# Altium footprint library Miscellaneous LED Segment Displays.PcbLib: 17 footprints (part 1 of 2)
Each footprint in its own frame and in the unit in brackets; x right, y up, seen from the top. Pads: shape width x height; smd on the part's side, far side on the other; paste and mask are expansions set on the pad; w line width, h text height; cw(c..) or ccw(c..) is an arc to the next point about the centre after c.
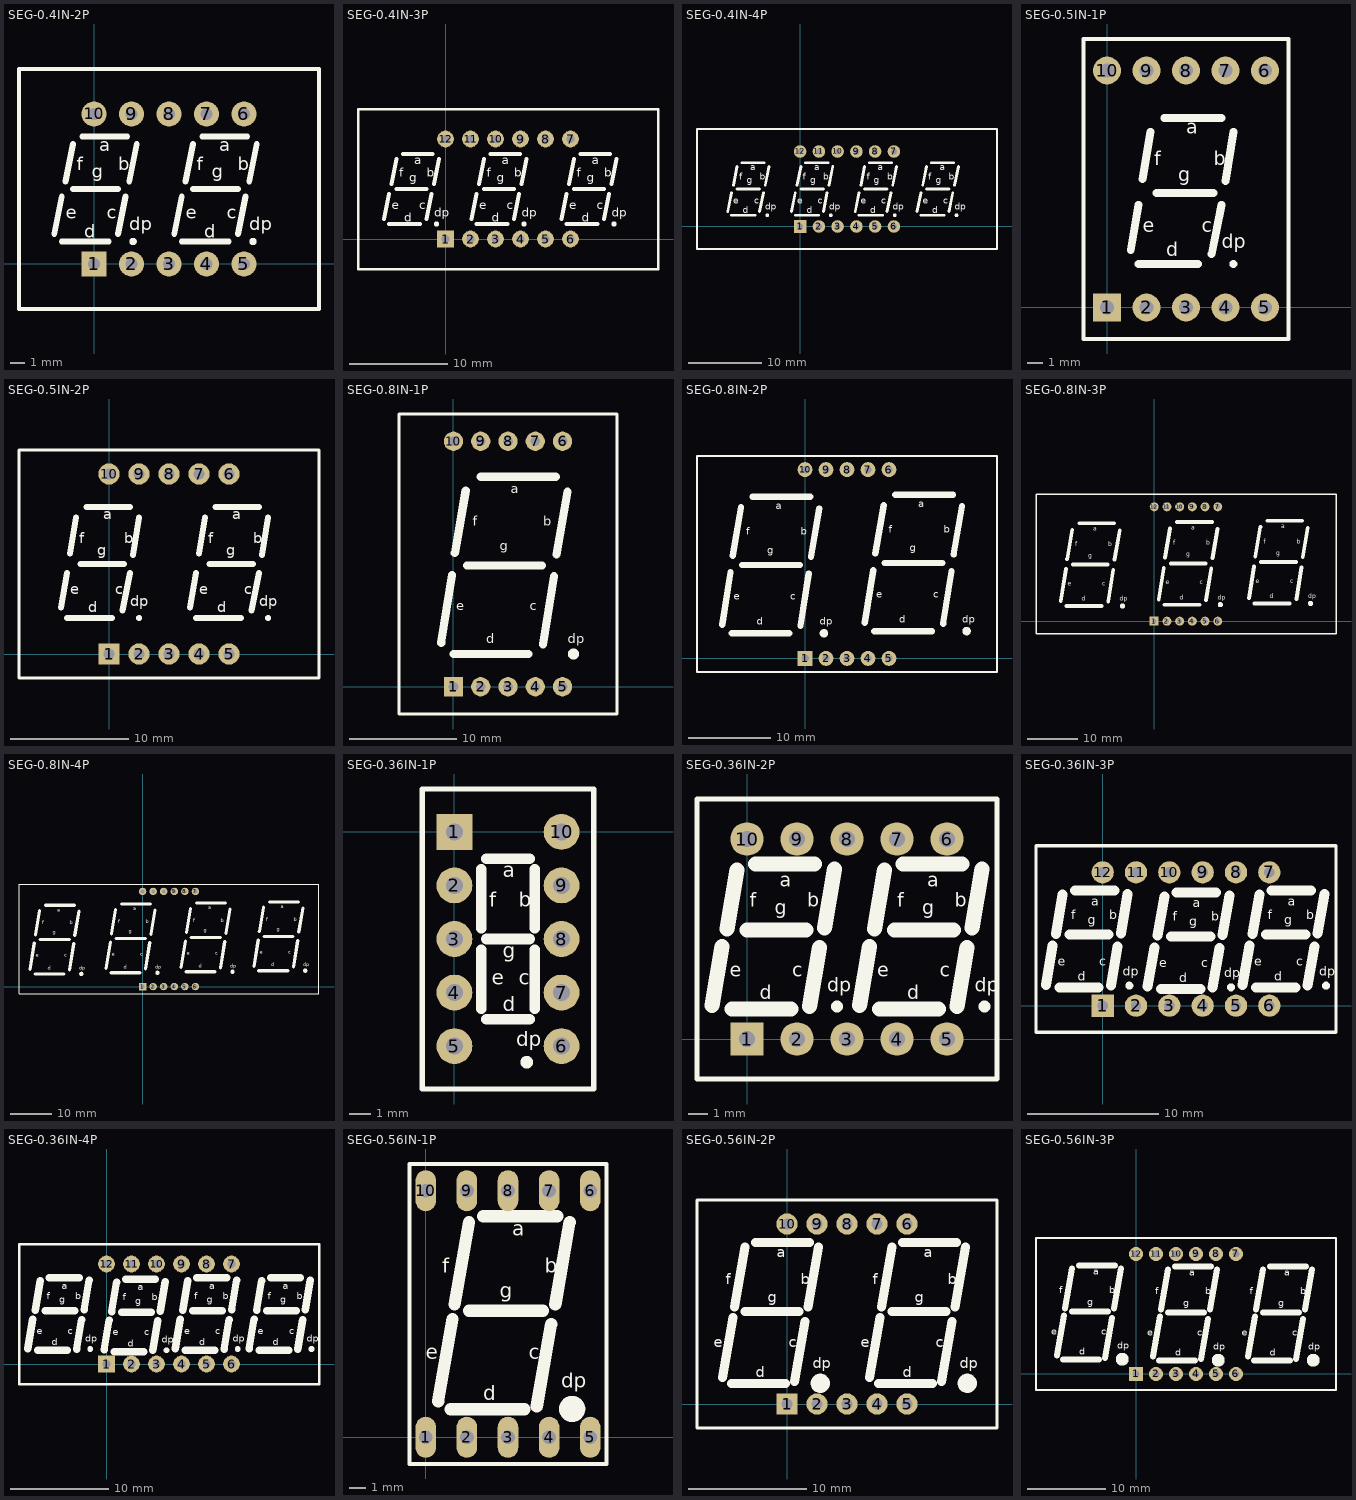
[diagram p0: the footprints below, top view; thin cyan lines are the x and y axes]

## SEG-0.4IN-2P [mm]
pads (10):
  rect 1.7x1.7 hole 0.8: 1(0,0)
  round 1.7 hole 0.8: 2(2.54,0) 3(5.08,0) 4(7.62,0) 5(10.16,0) 6(10.16,10.16) 7(7.62,10.16) 8(5.08,10.16) 9(2.54,10.16) 10(0,10.16)
Top Overlay:
  circle w0.254: c10.77,1.524 r0.127
  circle w0.254: c2.642,1.524 r0.127
  lines w0.254: -5.08,-3.048 -5.08,13.208 15.24,13.208 15.24,-3.048 -5.08,-3.048
  lines w0.381: -2.692,2.032 -2.184,4.572 ; -2.184,1.524 0.991,1.524 ; -1.93,5.588 -1.422,8.128 ; -1.422,5.08 1.626,5.08 ; -0.787,8.636 2.261,8.636 ; 1.626,2.032 2.134,4.572 ; 2.388,5.588 2.896,8.128 ; 5.436,2.032 5.944,4.572 ; 5.944,1.524 9.119,1.524 ; 6.198,5.588 6.706,8.128 ; 6.706,5.08 9.754,5.08 ; 7.341,8.636 10.389,8.636 ; 9.754,2.032 10.262,4.572 ; 10.516,5.588 11.024,8.128
  text "f" at 6.96,6.35 h0.9
  text "b" at 9.754,6.35 h0.9
  text "g" at 7.976,5.842 h0.9
  text "a" at 8.484,7.62 h0.9
  text "d" at 7.468,1.778 h0.9
  text "e" at 6.198,3.048 h0.9
  text "dp" at 10.516,2.286 h0.9
  text "c" at 8.992,3.048 h0.9
  text "f" at -1.168,6.35 h0.9
  text "b" at 1.626,6.35 h0.9
  text "g" at -0.152,5.842 h0.9
  text "a" at 0.356,7.62 h0.9
  text "d" at -0.66,1.778 h0.9
  text "e" at -1.93,3.048 h0.9
  text "dp" at 2.388,2.286 h0.9
  text "c" at 0.864,3.048 h0.9
3D body "0.4IN-2P.STEP": height 7, standoff -3.6, extent -4.86,-2.92 15.24,13.08

## SEG-0.4IN-3P [mm]
pads (12):
  rect 1.7x1.7 hole 0.8: 1(0,0)
  round 1.7 hole 0.8: 2(2.54,0) 3(5.08,0) 4(7.62,0) 5(10.16,0) 6(12.7,0) 7(12.7,10.16) 8(10.16,10.16) 9(7.62,10.16) 10(5.08,10.16) 11(2.54,10.16) 12(0,10.16)
Top Overlay:
  circle w0.254: c17.12,1.524 r0.127
  circle w0.254: c7.976,1.524 r0.127
  circle w0.254: c-0.914,1.524 r0.127
  lines w0.254: -8.89,-3.048 -8.89,13.208 21.59,13.208 21.59,-3.048 -8.89,-3.048
  lines w0.381: -6.248,2.032 -5.74,4.572 ; -5.74,1.524 -2.565,1.524 ; -5.486,5.588 -4.978,8.128 ; -4.978,5.08 -1.93,5.08 ; -4.343,8.636 -1.295,8.636 ; -1.93,2.032 -1.422,4.572 ; -1.168,5.588 -0.66,8.128 ; 2.642,2.032 3.15,4.572 ; 3.15,1.524 6.325,1.524 ; 3.404,5.588 3.912,8.128 ; 3.912,5.08 6.96,5.08 ; 4.547,8.636 7.595,8.636 ; 6.96,2.032 7.468,4.572 ; 7.722,5.588 8.23,8.128 ; 11.786,2.032 12.294,4.572 ; 12.294,1.524 15.469,1.524 ; 12.548,5.588 13.056,8.128 ; 13.056,5.08 16.104,5.08 ; 13.691,8.636 16.739,8.636 ; 16.104,2.032 16.612,4.572 ; 16.866,5.588 17.374,8.128
  text "f" at 13.31,6.35 h0.9
  text "b" at 16.104,6.35 h0.9
  text "g" at 14.326,5.842 h0.9
  text "a" at 14.834,7.62 h0.9
  text "d" at 13.818,1.778 h0.9
  text "e" at 12.548,3.048 h0.9
  text "dp" at 16.866,2.286 h0.9
  text "c" at 15.342,3.048 h0.9
  text "f" at 4.166,6.35 h0.9
  text "b" at 6.96,6.35 h0.9
  text "g" at 5.182,5.842 h0.9
  text "a" at 5.69,7.62 h0.9
  text "d" at 4.674,1.778 h0.9
  text "e" at 3.404,3.048 h0.9
  text "dp" at 7.722,2.286 h0.9
  text "c" at 6.198,3.048 h0.9
  text "f" at -4.724,6.35 h0.9
  text "b" at -1.93,6.35 h0.9
  text "g" at -3.708,5.842 h0.9
  text "a" at -3.2,7.62 h0.9
  text "d" at -4.216,1.778 h0.9
  text "e" at -5.486,3.048 h0.9
  text "dp" at -1.168,2.286 h0.9
  text "c" at -2.692,3.048 h0.9
3D body "0.4IN-3P.STEP": height 7, standoff -3.6, extent -8.636,-2.92 21.464,13.08

## SEG-0.4IN-4P [mm]
pads (12):
  rect 1.7x1.7 hole 0.8: 1(0,0)
  round 1.7 hole 0.8: 2(2.54,0) 3(5.08,0) 4(7.62,0) 5(10.16,0) 6(12.7,0) 7(12.7,10.16) 8(10.16,10.16) 9(7.62,10.16) 10(5.08,10.16) 11(2.54,10.16) 12(0,10.16)
Top Overlay:
  circle w0.254: c21.184,1.524 r0.127
  circle w0.254: c12.802,1.524 r0.127
  circle w0.254: c4.166,1.524 r0.127
  circle w0.254: c-4.47,1.524 r0.127
  lines w0.254: -13.97,-3.048 26.67,-3.048 26.67,13.208 -13.97,13.208 -13.97,-3.048
  lines w0.381: -9.804,2.032 -9.296,4.572 ; -9.296,1.524 -6.121,1.524 ; -9.042,5.588 -8.534,8.128 ; -8.534,5.08 -5.486,5.08 ; -7.899,8.636 -4.851,8.636 ; -5.486,2.032 -4.978,4.572 ; -4.724,5.588 -4.216,8.128 ; -1.168,2.032 -0.66,4.572 ; -0.66,1.524 2.515,1.524 ; -0.406,5.588 0.102,8.128 ; 0.102,5.08 3.15,5.08 ; 0.737,8.636 3.785,8.636 ; 3.15,2.032 3.658,4.572 ; 3.912,5.588 4.42,8.128 ; 7.468,2.032 7.976,4.572 ; 7.976,1.524 11.151,1.524 ; 8.23,5.588 8.738,8.128 ; 8.738,5.08 11.786,5.08 ; 9.373,8.636 12.421,8.636 ; 11.786,2.032 12.294,4.572 ; 12.548,5.588 13.056,8.128 ; 15.85,2.032 16.358,4.572 ; 16.358,1.524 19.533,1.524 ; 16.612,5.588 17.12,8.128 ; 17.12,5.08 20.168,5.08 ; 17.755,8.636 20.803,8.636 ; 20.168,2.032 20.676,4.572 ; 20.93,5.588 21.438,8.128
  text "f" at 17.374,6.35 h0.9
  text "b" at 20.168,6.35 h0.9
  text "g" at 18.39,5.842 h0.9
  text "a" at 18.898,7.62 h0.9
  text "d" at 17.882,1.778 h0.9
  text "e" at 16.612,3.048 h0.9
  text "dp" at 20.93,2.286 h0.9
  text "c" at 19.406,3.048 h0.9
  text "f" at 8.992,6.35 h0.9
  text "b" at 11.786,6.35 h0.9
  text "g" at 10.008,5.842 h0.9
  text "a" at 10.516,7.62 h0.9
  text "d" at 9.5,1.778 h0.9
  text "e" at 8.23,3.048 h0.9
  text "dp" at 12.548,2.286 h0.9
  text "c" at 11.024,3.048 h0.9
  text "f" at 0.356,6.35 h0.9
  text "b" at 3.15,6.35 h0.9
  text "g" at 1.372,5.842 h0.9
  text "a" at 1.88,7.62 h0.9
  text "d" at 0.864,1.778 h0.9
  text "e" at -0.406,3.048 h0.9
  text "dp" at 3.912,2.286 h0.9
  text "c" at 2.388,3.048 h0.9
  text "f" at -8.28,6.35 h0.9
  text "b" at -5.486,6.35 h0.9
  text "g" at -7.264,5.842 h0.9
  text "a" at -6.756,7.62 h0.9
  text "d" at -7.772,1.778 h0.9
  text "e" at -9.042,3.048 h0.9
  text "dp" at -4.724,2.286 h0.9
  text "c" at -6.248,3.048 h0.9
3D body "0.4IN-4P.STEP": height 7, standoff -3.6, extent -13.9,-3.046 26.6,12.954

## SEG-0.5IN-1P [mm]
pads (10):
  rect 1.8x1.8 hole 0.9: 1(0,0)
  round 1.8 hole 0.9: 2(2.54,0) 3(5.08,0) 4(7.62,0) 5(10.16,0) 6(10.16,15.24) 7(7.62,15.24) 8(5.08,15.24) 9(2.54,15.24) 10(0,15.24)
Top Overlay:
  circle w0.254: c8.128,2.794 r0.127
  lines w0.254: -1.524,-2.032 11.684,-2.032 11.684,17.272 -1.524,17.272 -1.524,-2.032
  lines w0.508: 1.524,3.683 2.032,6.604 ; 2.032,2.794 5.842,2.794 ; 2.286,8.255 2.794,11.303 ; 3.175,7.366 6.858,7.366 ; 3.683,12.192 7.366,12.192 ; 6.731,3.429 7.366,6.604 ; 7.62,8.128 8.128,11.303
  text "c" at 6.096,4.826 h0.9
  text "dp" at 7.366,3.81 h0.9
  text "e" at 2.286,4.826 h0.9
  text "d" at 3.81,3.302 h0.9
  text "a" at 5.08,11.176 h0.9
  text "g" at 4.572,8.128 h0.9
  text "b" at 6.858,9.144 h0.9
  text "f" at 3.048,9.144 h0.9
3D body "0.5IN-1P.STEP": height 8, standoff -3.6, extent -1.27,-1.982 11.43,17.018

## SEG-0.5IN-2P [mm]
pads (10):
  rect 1.8x1.8 hole 0.9: 1(0,0)
  round 1.8 hole 0.9: 2(2.54,0) 3(5.08,0) 4(7.62,0) 5(10.16,0) 6(10.16,15.24) 7(7.62,15.24) 8(5.08,15.24) 9(2.54,15.24) 10(0,15.24)
Top Overlay:
  circle w0.254: c2.54,3.048 r0.127
  circle w0.254: c13.462,3.048 r0.127
  lines w0.254: -7.62,-2.032 17.78,-2.032 17.78,17.272 -7.62,17.272 -7.62,-2.032
  lines w0.508: -4.064,3.937 -3.556,6.858 ; -3.556,3.048 0.254,3.048 ; -3.302,8.509 -2.794,11.557 ; -2.413,7.62 1.27,7.62 ; -1.905,12.446 1.778,12.446 ; 1.143,3.683 1.778,6.858 ; 2.032,8.382 2.54,11.557 ; 6.858,3.937 7.366,6.858 ; 7.366,3.048 11.176,3.048 ; 7.62,8.509 8.128,11.557 ; 8.509,7.62 12.192,7.62 ; 9.017,12.446 12.7,12.446 ; 12.065,3.683 12.7,6.858 ; 12.954,8.382 13.462,11.557
  text "f" at -2.54,9.398 h0.9
  text "b" at 1.27,9.398 h0.9
  text "g" at -1.016,8.382 h0.9
  text "a" at -0.508,11.43 h0.9
  text "d" at -1.778,3.556 h0.9
  text "e" at -3.302,5.08 h0.9
  text "dp" at 1.778,4.064 h0.9
  text "c" at 0.508,5.08 h0.9
  text "f" at 8.382,9.398 h0.9
  text "b" at 12.192,9.398 h0.9
  text "g" at 9.906,8.382 h0.9
  text "a" at 10.414,11.43 h0.9
  text "d" at 9.144,3.556 h0.9
  text "e" at 7.62,5.08 h0.9
  text "dp" at 12.7,4.064 h0.9
  text "c" at 11.43,5.08 h0.9
3D body "0.5IN-2P.STEP": height 8, standoff -3.6, extent -7.42,-1.982 17.58,17.018

## SEG-0.8IN-1P [mm]
pads (10):
  rect 1.8x1.8 hole 0.9: 1(0,0)
  round 1.8 hole 0.9: 2(2.54,0) 3(5.08,0) 4(7.62,0) 5(10.16,0) 6(10.16,22.86) 7(7.62,22.86) 8(5.08,22.86) 9(2.54,22.86) 10(0,22.86)
Top Overlay:
  circle w0.508: c11.176,3.048 r0.254
  lines w0.254: -5.08,-2.54 -5.08,25.4 15.24,25.4 15.24,-2.54 -5.08,-2.54
  lines w0.762: -1.143,4.064 -0.127,10.414 ; 0,3.048 6.985,3.048 ; 0.127,12.446 1.143,18.288 ; 1.27,11.303 8.255,11.303 ; 2.54,19.558 9.525,19.558 ; 8.336,3.937 9.352,10.287 ; 9.606,12.319 10.622,18.161
  text "f" at 1.778,14.986 h0.9
  text "b" at 8.382,14.986 h0.9
  text "g" at 4.318,12.7 h0.9
  text "a" at 5.334,18.034 h0.9
  text "d" at 3.048,4.064 h0.9
  text "e" at 0.254,7.112 h0.9
  text "dp" at 10.668,4.064 h0.9
  text "c" at 7.112,7.112 h0.9
3D body "0.8IN-1P.STEP": height 10, standoff -3.1, extent -4.92,-2.554 15.08,25.146

## SEG-0.8IN-2P [mm]
pads (10):
  rect 1.8x1.8 hole 0.9: 1(0,0)
  round 1.8 hole 0.9: 2(2.54,0) 3(5.08,0) 4(7.62,0) 5(10.16,0) 6(10.16,22.86) 7(7.62,22.86) 8(5.08,22.86) 9(2.54,22.86) 10(0,22.86)
Top Overlay:
  circle w0.508: c2.286,3.048 r0.254
  circle w0.508: c19.558,3.302 r0.254
  lines w0.254: -13.081,-1.651 -13.081,24.511 23.241,24.511 23.241,-1.651 -13.081,-1.651
  lines w0.762: -10.033,4.064 -9.017,10.414 ; -8.89,3.048 -1.905,3.048 ; -8.763,12.446 -7.747,18.288 ; -7.62,11.303 -0.635,11.303 ; -6.35,19.558 0.635,19.558 ; -0.554,3.937 0.462,10.287 ; 0.716,12.319 1.732,18.161 ; 7.239,4.318 8.255,10.668 ; 8.382,3.302 15.367,3.302 ; 8.509,12.7 9.525,18.542 ; 9.652,11.557 16.637,11.557 ; 10.922,19.812 17.907,19.812 ; 16.718,4.191 17.734,10.541 ; 17.988,12.573 19.004,18.415
  text "f" at -7.112,14.986 h0.9
  text "b" at -0.508,14.986 h0.9
  text "g" at -4.572,12.7 h0.9
  text "a" at -3.556,18.034 h0.9
  text "d" at -5.842,4.064 h0.9
  text "e" at -8.636,7.112 h0.9
  text "dp" at 1.778,4.064 h0.9
  text "c" at -1.778,7.112 h0.9
  text "f" at 10.16,15.24 h0.9
  text "b" at 16.764,15.24 h0.9
  text "g" at 12.7,12.954 h0.9
  text "a" at 13.716,18.288 h0.9
  text "d" at 11.43,4.318 h0.9
  text "e" at 8.636,7.366 h0.9
  text "dp" at 19.05,4.318 h0.9
  text "c" at 15.494,7.366 h0.9
3D body "0.8IN-2P.STEP": height 10, standoff -3.1, extent -12.82,-1.162 22.98,24.638

## SEG-0.8IN-3P [mm]
pads (12):
  rect 1.8x1.8 hole 0.9: 1(0,0)
  round 1.8 hole 0.9: 2(2.54,0) 3(5.08,0) 4(7.62,0) 5(10.16,0) 6(12.7,0) 7(12.7,22.86) 8(10.16,22.86) 9(7.62,22.86) 10(5.08,22.86) 11(2.54,22.86) 12(0,22.86)
Top Overlay:
  circle w0.508: c31.242,3.556 r0.254
  circle w0.508: c13.208,3.302 r0.254
  circle w0.508: c-6.35,3.048 r0.254
  lines w0.254: -23.622,-2.54 36.322,-2.54 36.322,25.4 -23.622,25.4 -23.622,-2.54
  lines w0.762: -18.669,4.064 -17.653,10.414 ; -17.526,3.048 -10.541,3.048 ; -17.399,12.446 -16.383,18.288 ; -16.256,11.303 -9.271,11.303 ; -14.986,19.558 -8.001,19.558 ; -9.19,3.937 -8.174,10.287 ; -7.92,12.319 -6.904,18.161 ; 0.889,4.318 1.905,10.668 ; 2.032,3.302 9.017,3.302 ; 2.159,12.7 3.175,18.542 ; 3.302,11.557 10.287,11.557 ; 4.572,19.812 11.557,19.812 ; 10.368,4.191 11.384,10.541 ; 11.638,12.573 12.654,18.415 ; 18.923,4.572 19.939,10.922 ; 20.066,3.556 27.051,3.556 ; 20.193,12.954 21.209,18.796 ; 21.336,11.811 28.321,11.811 ; 22.606,20.066 29.591,20.066 ; 28.402,4.445 29.418,10.795 ; 29.672,12.827 30.688,18.669
  text "c" at 27.178,7.62 h0.9
  text "dp" at 30.734,4.572 h0.9
  text "e" at 20.32,7.62 h0.9
  text "d" at 23.114,4.572 h0.9
  text "a" at 25.4,18.542 h0.9
  text "g" at 24.384,13.208 h0.9
  text "b" at 28.448,15.494 h0.9
  text "f" at 21.844,15.494 h0.9
  text "c" at 9.144,7.366 h0.9
  text "dp" at 12.7,4.318 h0.9
  text "e" at 2.286,7.366 h0.9
  text "d" at 5.08,4.318 h0.9
  text "a" at 7.366,18.288 h0.9
  text "g" at 6.35,12.954 h0.9
  text "b" at 10.414,15.24 h0.9
  text "f" at 3.81,15.24 h0.9
  text "c" at -10.414,7.112 h0.9
  text "dp" at -6.858,4.064 h0.9
  text "e" at -17.272,7.112 h0.9
  text "d" at -14.478,4.064 h0.9
  text "a" at -12.192,18.034 h0.9
  text "g" at -13.208,12.7 h0.9
  text "b" at -9.144,14.986 h0.9
  text "f" at -15.748,14.986 h0.9
3D body "0.8IN-3P.STEP": height 10, standoff -3.1, extent -23.3,-2.046 36,25.654

## SEG-0.8IN-4P [mm]
pads (12):
  rect 1.8x1.8 hole 0.9: 1(0,0)
  round 1.8 hole 0.9: 2(2.54,0) 3(5.08,0) 4(7.62,0) 5(10.16,0) 6(12.7,0) 7(12.7,22.86) 8(10.16,22.86) 9(7.62,22.86) 10(5.08,22.86) 11(2.54,22.86) 12(0,22.86)
Top Overlay:
  circle w0.508: c39.116,3.81 r0.254
  circle w0.508: c21.59,3.556 r0.254
  circle w0.508: c3.556,3.302 r0.254
  circle w0.508: c-14.732,3.048 r0.254
  lines w0.254: -29.718,-1.778 -29.718,24.638 42.418,24.638 42.418,-1.778 -29.718,-1.778
  lines w0.762: -27.051,4.064 -26.035,10.414 ; -25.908,3.048 -18.923,3.048 ; -25.781,12.446 -24.765,18.288 ; -24.638,11.303 -17.653,11.303 ; -23.368,19.558 -16.383,19.558 ; -17.572,3.937 -16.556,10.287 ; -16.302,12.319 -15.286,18.161 ; -8.763,4.318 -7.747,10.668 ; -7.62,3.302 -0.635,3.302 ; -7.493,12.7 -6.477,18.542 ; -6.35,11.557 0.635,11.557 ; -5.08,19.812 1.905,19.812 ; 0.716,4.191 1.732,10.541 ; 1.986,12.573 3.002,18.415 ; 9.271,4.572 10.287,10.922 ; 10.414,3.556 17.399,3.556 ; 10.541,12.954 11.557,18.796 ; 11.684,11.811 18.669,11.811 ; 12.954,20.066 19.939,20.066 ; 18.75,4.445 19.766,10.795 ; 20.02,12.827 21.036,18.669 ; 26.797,4.826 27.813,11.176 ; 27.94,3.81 34.925,3.81 ; 28.067,13.208 29.083,19.05 ; 29.21,12.065 36.195,12.065 ; 30.48,20.32 37.465,20.32 ; 36.276,4.699 37.292,11.049 ; 37.546,13.081 38.562,18.923
  text "c" at 35.052,7.874 h0.9
  text "dp" at 38.608,4.826 h0.9
  text "e" at 28.194,7.874 h0.9
  text "d" at 30.988,4.826 h0.9
  text "a" at 33.274,18.796 h0.9
  text "g" at 32.258,13.462 h0.9
  text "b" at 36.322,15.748 h0.9
  text "f" at 29.718,15.748 h0.9
  text "c" at 17.526,7.62 h0.9
  text "dp" at 21.082,4.572 h0.9
  text "e" at 10.668,7.62 h0.9
  text "d" at 13.462,4.572 h0.9
  text "a" at 15.748,18.542 h0.9
  text "g" at 14.732,13.208 h0.9
  text "b" at 18.796,15.494 h0.9
  text "f" at 12.192,15.494 h0.9
  text "c" at -0.508,7.366 h0.9
  text "dp" at 3.048,4.318 h0.9
  text "e" at -7.366,7.366 h0.9
  text "d" at -4.572,4.318 h0.9
  text "a" at -2.286,18.288 h0.9
  text "g" at -3.302,12.954 h0.9
  text "b" at 0.762,15.24 h0.9
  text "f" at -5.842,15.24 h0.9
  text "c" at -18.796,7.112 h0.9
  text "dp" at -15.24,4.064 h0.9
  text "e" at -25.654,7.112 h0.9
  text "d" at -22.86,4.064 h0.9
  text "a" at -20.574,18.034 h0.9
  text "g" at -21.59,12.7 h0.9
  text "b" at -17.526,14.986 h0.9
  text "f" at -24.13,14.986 h0.9
3D body "0.8IN-4P.STEP": height 10, standoff -3.1, extent -29.45,-1.108 42.15,24.892

## SEG-0.36IN-1P [mm]
pads (10):
  rect 1.7x1.7 hole 0.8: 1(0,0)
  round 1.7 hole 0.8: 2(0,-2.54) 3(0,-5.08) 4(0,-7.62) 5(0,-10.16) 6(5.08,-10.16) 7(5.08,-7.62) 8(5.08,-5.08) 9(5.08,-2.54) 10(5.08,0)
Top Overlay:
  circle w0.5: c3.429,-10.922 r0.05
  lines w0.254: -1.524,-12.192 6.604,-12.192 6.604,2.032 -1.524,2.032 -1.524,-12.192
  lines w0.508: 1.27,-8.382 1.27,-5.588 ; 1.27,-4.572 1.27,-1.778 ; 1.524,-8.89 3.556,-8.89 ; 1.524,-5.08 3.556,-5.08 ; 1.524,-1.27 3.556,-1.27 ; 3.81,-8.382 3.81,-5.588 ; 3.81,-4.572 3.81,-1.778
  text "g" at 2.286,-5.969 h0.7
  text "c" at 3.048,-7.239 h0.7
  text "dp" at 2.921,-10.16 h0.7
  text "e" at 1.778,-7.239 h0.7
  text "d" at 2.286,-8.509 h0.7
  text "a" at 2.286,-2.159 h0.7
  text "b" at 3.048,-3.556 h0.7
  text "f" at 1.651,-3.556 h0.7
Mechanical 15:
  lines w0.05: 2.04,-5.08 3.04,-5.08
3D body "0.36IN-1P.STEP": height 8.5, standoff -3.35, extent -1.21,-12.095 6.29,1.905

## SEG-0.36IN-2P [mm]
pads (10):
  rect 1.7x1.7 hole 0.8: 1(0,0)
  round 1.7 hole 0.8: 2(2.54,0) 3(5.08,0) 4(7.62,0) 5(10.16,0) 6(10.16,10.16) 7(7.62,10.16) 8(5.08,10.16) 9(2.54,10.16) 10(0,10.16)
Top Overlay:
  circle w0.5: c4.572,1.651 r0.05
  circle w0.5: c12.065,1.651 r0.05
  lines w0.254: -2.54,-2.032 -2.54,12.192 12.7,12.192 12.7,-2.032 -2.54,-2.032
  lines w0.762: -1.778,1.702 -1.27,4.699 ; -1.016,5.588 -0.508,8.585 ; -0.762,1.524 2.238,1.524 ; 0,5.537 3,5.537 ; 0.429,8.89 3.429,8.89 ; 3.175,1.651 3.683,4.648 ; 3.937,5.639 4.445,8.636 ; 5.715,1.702 6.223,4.699 ; 6.477,5.588 6.985,8.585 ; 6.731,1.524 9.731,1.524 ; 7.493,5.537 10.493,5.537 ; 7.922,8.89 10.922,8.89 ; 10.668,1.651 11.176,4.648 ; 11.43,5.639 11.938,8.636
  text "c" at 2.286,3.175 h0.7
  text "dp" at 4.064,2.413 h0.7
  text "e" at -0.889,3.175 h0.7
  text "d" at 0.635,2.032 h0.7
  text "a" at 1.651,7.747 h0.7
  text "g" at 1.397,6.35 h0.7
  text "b" at 3.048,6.731 h0.7
  text "f" at 0.127,6.731 h0.7
  text "f" at 7.62,6.731 h0.7
  text "b" at 10.541,6.731 h0.7
  text "g" at 8.89,6.35 h0.7
  text "a" at 9.144,7.747 h0.7
  text "d" at 8.128,2.032 h0.7
  text "e" at 6.604,3.175 h0.7
  text "dp" at 11.557,2.413 h0.7
  text "c" at 9.779,3.175 h0.7
3D body "0.36IN-2P.STEP": height 7.2, standoff -3.6, extent -2.42,-1.935 12.58,12.065

## SEG-0.36IN-3P [mm]
pads (12):
  rect 1.7x1.7 hole 0.8: 1(0,0)
  round 1.7 hole 0.8: 2(2.54,0) 3(5.08,0) 4(7.62,0) 5(10.16,0) 6(12.7,0) 7(12.7,10.16) 8(10.16,10.16) 9(7.62,10.16) 10(5.08,10.16) 11(2.54,10.16) 12(0,10.16)
Top Overlay:
  circle w0.5: c2.032,1.524 r0.05
  circle w0.5: c9.779,1.397 r0.05
  circle w0.5: c17.018,1.524 r0.05
  lines w0.254: -5.08,-2.032 17.78,-2.032 17.78,12.192 -5.08,12.192 -5.08,-2.032
  lines w0.762: -4.318,1.575 -3.81,4.572 ; -3.556,5.461 -3.048,8.458 ; -3.302,1.397 -0.302,1.397 ; -2.54,5.41 0.46,5.41 ; -2.111,8.763 0.889,8.763 ; 0.635,1.524 1.143,4.521 ; 1.397,5.512 1.905,8.509 ; 3.429,1.448 3.937,4.445 ; 4.191,5.334 4.699,8.331 ; 4.445,1.27 7.445,1.27 ; 5.207,5.283 8.207,5.283 ; 5.636,8.636 8.636,8.636 ; 8.382,1.397 8.89,4.394 ; 9.144,5.385 9.652,8.382 ; 10.668,1.575 11.176,4.572 ; 11.43,5.461 11.938,8.458 ; 11.684,1.397 14.684,1.397 ; 12.446,5.41 15.446,5.41 ; 12.875,8.763 15.875,8.763 ; 15.621,1.524 16.129,4.521 ; 16.383,5.512 16.891,8.509
  text "f" at -2.413,6.604 h0.7
  text "b" at 0.508,6.604 h0.7
  text "g" at -1.143,6.223 h0.7
  text "a" at -0.889,7.62 h0.7
  text "d" at -1.905,1.905 h0.7
  text "e" at -3.429,3.048 h0.7
  text "dp" at 1.524,2.286 h0.7
  text "c" at -0.254,3.048 h0.7
  text "f" at 5.334,6.477 h0.7
  text "b" at 8.255,6.477 h0.7
  text "g" at 6.604,6.096 h0.7
  text "a" at 6.858,7.493 h0.7
  text "d" at 5.842,1.778 h0.7
  text "e" at 4.318,2.921 h0.7
  text "dp" at 9.271,2.159 h0.7
  text "c" at 7.493,2.921 h0.7
  text "f" at 12.573,6.604 h0.7
  text "b" at 15.494,6.604 h0.7
  text "g" at 13.843,6.223 h0.7
  text "a" at 14.097,7.62 h0.7
  text "d" at 13.081,1.905 h0.7
  text "e" at 11.557,3.048 h0.7
  text "dp" at 16.51,2.286 h0.7
  text "c" at 14.732,3.048 h0.7
3D body "0.36IN-3P.STEP": height 7.2, standoff -3.6, extent -4.9,-1.935 17.6,12.065

## SEG-0.36IN-4P [mm]
pads (12):
  rect 1.7x1.7 hole 0.8: 1(0,0)
  round 1.7 hole 0.8: 2(2.54,0) 3(5.08,0) 4(7.62,0) 5(10.16,0) 6(12.7,0) 7(12.7,10.16) 8(10.16,10.16) 9(7.62,10.16) 10(5.08,10.16) 11(2.54,10.16) 12(0,10.16)
Top Overlay:
  circle w0.5: c20.828,1.524 r0.05
  circle w0.5: c13.335,1.524 r0.05
  circle w0.5: c6.096,1.397 r0.05
  circle w0.5: c-1.651,1.524 r0.05
  lines w0.254: -8.89,-2.032 -8.89,12.192 21.59,12.192 21.59,-2.032 -8.89,-2.032
  lines w0.762: -8.001,1.575 -7.493,4.572 ; -7.239,5.461 -6.731,8.458 ; -6.985,1.397 -3.985,1.397 ; -6.223,5.41 -3.223,5.41 ; -5.794,8.763 -2.794,8.763 ; -3.048,1.524 -2.54,4.521 ; -2.286,5.512 -1.778,8.509 ; -0.254,1.448 0.254,4.445 ; 0.508,5.334 1.016,8.331 ; 0.762,1.27 3.762,1.27 ; 1.524,5.283 4.524,5.283 ; 1.953,8.636 4.953,8.636 ; 4.699,1.397 5.207,4.394 ; 5.461,5.385 5.969,8.382 ; 6.985,1.575 7.493,4.572 ; 7.747,5.461 8.255,8.458 ; 8.001,1.397 11.001,1.397 ; 8.763,5.41 11.763,5.41 ; 9.192,8.763 12.192,8.763 ; 11.938,1.524 12.446,4.521 ; 12.7,5.512 13.208,8.509 ; 14.478,1.575 14.986,4.572 ; 15.24,5.461 15.748,8.458 ; 15.494,1.397 18.494,1.397 ; 16.256,5.41 19.256,5.41 ; 16.685,8.763 19.685,8.763 ; 19.431,1.524 19.939,4.521 ; 20.193,5.512 20.701,8.509
  text "f" at 16.383,6.604 h0.7
  text "b" at 19.304,6.604 h0.7
  text "g" at 17.653,6.223 h0.7
  text "a" at 17.907,7.62 h0.7
  text "d" at 16.891,1.905 h0.7
  text "e" at 15.367,3.048 h0.7
  text "dp" at 20.32,2.286 h0.7
  text "c" at 18.542,3.048 h0.7
  text "c" at 11.049,3.048 h0.7
  text "dp" at 12.827,2.286 h0.7
  text "e" at 7.874,3.048 h0.7
  text "d" at 9.398,1.905 h0.7
  text "a" at 10.414,7.62 h0.7
  text "g" at 10.16,6.223 h0.7
  text "b" at 11.811,6.604 h0.7
  text "f" at 8.89,6.604 h0.7
  text "c" at 3.81,2.921 h0.7
  text "dp" at 5.588,2.159 h0.7
  text "e" at 0.635,2.921 h0.7
  text "d" at 2.159,1.778 h0.7
  text "a" at 3.175,7.493 h0.7
  text "g" at 2.921,6.096 h0.7
  text "b" at 4.572,6.477 h0.7
  text "f" at 1.651,6.477 h0.7
  text "c" at -3.937,3.048 h0.7
  text "dp" at -2.159,2.286 h0.7
  text "e" at -7.112,3.048 h0.7
  text "d" at -5.588,1.905 h0.7
  text "a" at -4.572,7.62 h0.7
  text "g" at -4.826,6.223 h0.7
  text "b" at -3.175,6.604 h0.7
  text "f" at -6.096,6.604 h0.7
3D body "0.36IN-4P.STEP": height 7.2, standoff -3.6, extent -8.65,-1.935 21.35,12.065

## SEG-0.56IN-1P [mm]
pads (10):
  oval 1.27x2.54 hole 0.85: 1(0,0) 2(2.54,0) 3(5.08,0) 4(7.62,0) 5(10.16,0) 6(10.16,15.24) 7(7.62,15.24) 8(5.08,15.24) 9(2.54,15.24) 10(0,15.24)
Top Overlay:
  circle w1.016: c9.042,1.753 r0.305
  lines w0.254: -1.016,-1.651 -1.016,16.891 11.176,16.891 11.176,-1.651 -1.016,-1.651
  lines w0.762: 0.762,2.235 1.651,7.315 ; 1.524,1.727 6.096,1.727 ; 1.778,8.204 2.667,13.284 ; 2.667,7.823 7.239,7.823 ; 3.556,13.665 8.128,13.665 ; 6.858,1.905 7.747,6.985 ; 8.001,8.204 8.89,13.284
  text "f" at 1.016,10.16 h0.9
  text "b" at 7.366,10.16 h0.9
  text "g" at 4.572,8.636 h0.9
  text "a" at 5.334,12.446 h0.9
  text "d" at 3.556,2.286 h0.9
  text "e" at 0,4.826 h0.9
  text "dp" at 8.382,3.048 h0.9
  text "c" at 6.35,4.826 h0.9
3D body "0.56IN-1P.STEP": height 8, standoff -3.6, extent -1.22,-1.855 11.38,17.145

## SEG-0.56IN-2P [mm]
pads (10):
  rect 1.8x1.8 hole 0.9: 1(0,0)
  round 1.8 hole 0.9: 2(2.54,0) 3(5.08,0) 4(7.62,0) 5(10.16,0) 6(10.16,15.24) 7(7.62,15.24) 8(5.08,15.24) 9(2.54,15.24) 10(0,15.24)
Top Overlay:
  circle w1.016: c15.265,1.753 r0.305
  circle w1.016: c2.819,1.753 r0.305
  lines w0.254: -7.62,-2.032 -7.62,17.272 17.78,17.272 17.78,-2.032 -7.62,-2.032
  lines w0.762: -5.461,2.235 -4.572,7.315 ; -4.699,1.727 -0.127,1.727 ; -4.445,8.204 -3.556,13.284 ; -3.556,7.823 1.016,7.823 ; -2.667,13.665 1.905,13.665 ; 0.635,1.905 1.524,6.985 ; 1.778,8.204 2.667,13.284 ; 6.985,2.235 7.874,7.315 ; 7.747,1.727 12.319,1.727 ; 8.001,8.204 8.89,13.284 ; 8.89,7.823 13.462,7.823 ; 9.779,13.665 14.351,13.665 ; 13.081,1.905 13.97,6.985 ; 14.224,8.204 15.113,13.284
  text "c" at 12.573,4.826 h0.9
  text "dp" at 14.605,3.048 h0.9
  text "e" at 6.223,4.826 h0.9
  text "d" at 9.779,2.286 h0.9
  text "a" at 11.557,12.446 h0.9
  text "g" at 10.795,8.636 h0.9
  text "b" at 13.589,10.16 h0.9
  text "f" at 7.239,10.16 h0.9
  text "c" at 0.127,4.826 h0.9
  text "dp" at 2.159,3.048 h0.9
  text "e" at -6.223,4.826 h0.9
  text "d" at -2.667,2.286 h0.9
  text "a" at -0.889,12.446 h0.9
  text "g" at -1.651,8.636 h0.9
  text "b" at 1.143,10.16 h0.9
  text "f" at -5.207,10.16 h0.9
3D body "0.56IN-2P.STEP": height 8, standoff -3.6, extent -7.42,-1.855 17.58,17.145

## SEG-0.56IN-3P [mm]
pads (12):
  rect 1.8x1.8 hole 0.9: 1(0,0)
  round 1.8 hole 0.9: 2(2.54,0) 3(5.08,0) 4(7.62,0) 5(10.16,0) 6(12.7,0) 7(12.7,15.24) 8(10.16,15.24) 9(7.62,15.24) 10(5.08,15.24) 11(2.54,15.24) 12(0,15.24)
Top Overlay:
  circle w1.016: c22.504,1.753 r0.305
  circle w1.016: c10.439,1.753 r0.305
  circle w1.016: c-1.753,1.88 r0.305
  lines w0.254: -12.7,-2.032 25.4,-2.032 25.4,17.272 -12.7,17.272 -12.7,-2.032
  lines w0.762: -10.033,2.362 -9.144,7.442 ; -9.271,1.854 -4.699,1.854 ; -9.017,8.331 -8.128,13.411 ; -8.128,7.95 -3.556,7.95 ; -7.239,13.792 -2.667,13.792 ; -3.937,2.032 -3.048,7.112 ; -2.794,8.331 -1.905,13.411 ; 2.159,2.235 3.048,7.315 ; 2.921,1.727 7.493,1.727 ; 3.175,8.204 4.064,13.284 ; 4.064,7.823 8.636,7.823 ; 4.953,13.665 9.525,13.665 ; 8.255,1.905 9.144,6.985 ; 9.398,8.204 10.287,13.284 ; 14.224,2.235 15.113,7.315 ; 14.986,1.727 19.558,1.727 ; 15.24,8.204 16.129,13.284 ; 16.129,7.823 20.701,7.823 ; 17.018,13.665 21.59,13.665 ; 20.32,1.905 21.209,6.985 ; 21.463,8.204 22.352,13.284
  text "c" at 19.812,4.826 h0.9
  text "dp" at 21.844,3.048 h0.9
  text "e" at 13.462,4.826 h0.9
  text "d" at 17.018,2.286 h0.9
  text "a" at 18.796,12.446 h0.9
  text "g" at 18.034,8.636 h0.9
  text "b" at 20.828,10.16 h0.9
  text "f" at 14.478,10.16 h0.9
  text "c" at 7.747,4.826 h0.9
  text "dp" at 9.779,3.048 h0.9
  text "e" at 1.397,4.826 h0.9
  text "d" at 4.953,2.286 h0.9
  text "a" at 6.731,12.446 h0.9
  text "g" at 5.969,8.636 h0.9
  text "b" at 8.763,10.16 h0.9
  text "f" at 2.413,10.16 h0.9
  text "c" at -4.445,4.953 h0.9
  text "dp" at -2.413,3.175 h0.9
  text "e" at -10.795,4.953 h0.9
  text "d" at -7.239,2.413 h0.9
  text "a" at -5.461,12.573 h0.9
  text "g" at -6.223,8.763 h0.9
  text "b" at -3.429,10.287 h0.9
  text "f" at -9.779,10.287 h0.9
3D body "0.56IN-3P.STEP": height 8, standoff -3.6, extent -12.45,-1.982 25.15,17.018